# Altium schematic symbol library 2021-03-03_13-19-43.SchLib: 1 symbol
Pins are listed as number, name and electrical type; pins without a type are passive.

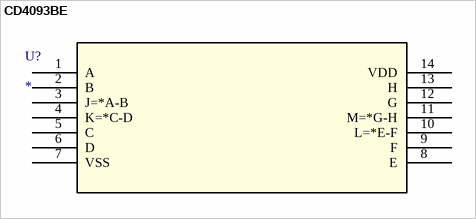
[diagram p0: symbol CD4093BE]

## CD4093BE
designator U?
CMOS Quad 2-Input NAND Schmitt Triggers; Manufacturer: Texas Instruments; GENERIC_PART_NUMBER: CD4093B; INDUSTRY_STD_PKG_TYPE: PDIP; FAMILY_NAME: NAND GATE; PIN_COUNT: 14; PACKAGE_DESIGNATOR: N; Datasheet_URL: http://www.ti.com/lit/gpn/CD4093B; Copyright: Copyright (C) 2018 Accelerated Designs. All rights reserved; RefDes: RefDes; Type: DEV
footprint N14
pins: 1 A, 2 B, 3 J=*A-B, 4 K=*C-D, 5 C, 6 D, 7 VSS (power), 8 E, 9 F, 10 L=*E-F, 11 M=*G-H, 12 G, 13 H, 14 VDD (power)